# EAGLE library part LM2674 (library texas-instruments)
SIMPLE SWITCHER 500 mA Step-Down Voltage Regulator
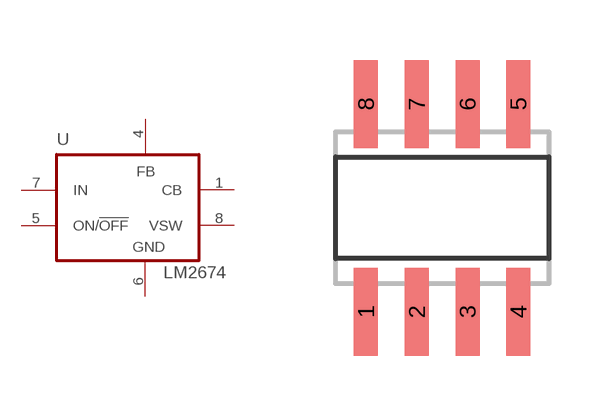
[diagram p12: symbol with the pads of SO08; footprint SO08]

Designator prefix U

## LM2674N (P1I: o)  [SO08]
1  CB  pas
4  FB  pas
5  ON/!OFF!  in
6  GND  pwr
7  IN  in
8  VSW  pas

## LM2674M (P1I: o)  [SO08]
Pads as for SO08

## Footprint SO08 (pad centres in mm)
SMALL OUTLINE INTEGRATED CIRCUIT body 3.9 mm/JEDEC MS-012AA
smd 0.6 x 2.2: 1 -1.905,-2.6; 2 -0.635,-2.6; 3 0.635,-2.6; 4 1.905,-2.6; 5 1.905,2.6; 6 0.635,2.6; 7 -0.635,2.6; 8 -1.905,2.6